# Altium footprint library CONN_MISC.PcbLib: 4 footprints
Each footprint in its own frame and in the unit in brackets; x right, y up, seen from the top. Pads: shape width x height; smd on the part's side, far side on the other; paste and mask are expansions set on the pad; w line width, h text height; cw(c..) or ccw(c..) is an arc to the next point about the centre after c.
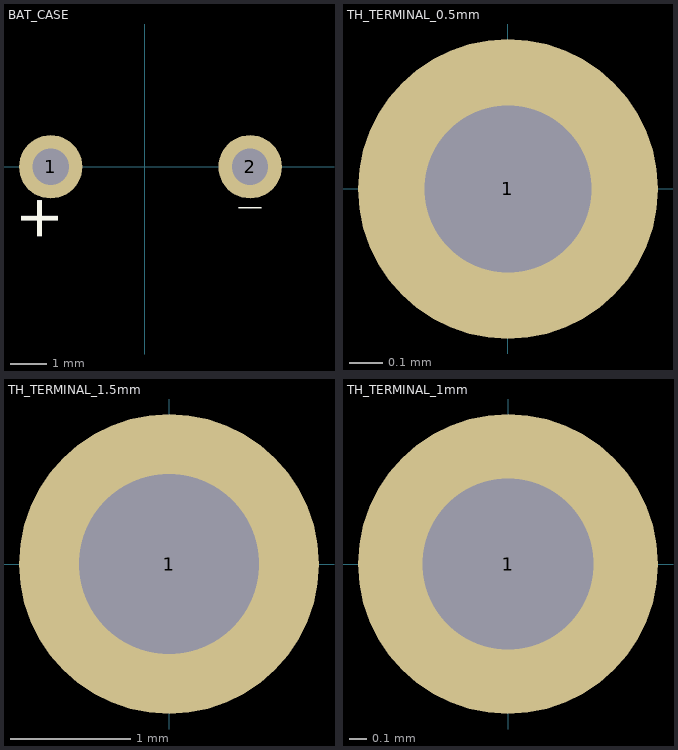
[diagram p0: the footprints below, top view; thin cyan lines are the x and y axes]

## BAT_CASE [mm]
pads (2):
  round 1.75 hole 1: 1(-2.6,0) 2(2.9,0)
Top Overlay:
  text "˗" at 2.5,-1.9 h2
  text "+" at -2,-2.1 h2
  text "˗" at 2.8,-1.9 h2

## TH_TERMINAL_0.5mm [mm]
pads (1):
  round 0.9 hole 0.5: 1(0,0)

## TH_TERMINAL_1.5mm [mm]
pads (1):
  round 2.5 hole 1.5: 1(0,0)

## TH_TERMINAL_1mm [mm]
pads (1):
  round 1.75 hole 1: 1(0,0)